# Altium footprint library PHY.PcbLib: 11 footprints
Each footprint in its own frame and in the unit in brackets; x right, y up, seen from the top. Pads: shape width x height; smd on the part's side, far side on the other; paste and mask are expansions set on the pad; w line width, h text height; cw(c..) or ccw(c..) is an arc to the next point about the centre after c.
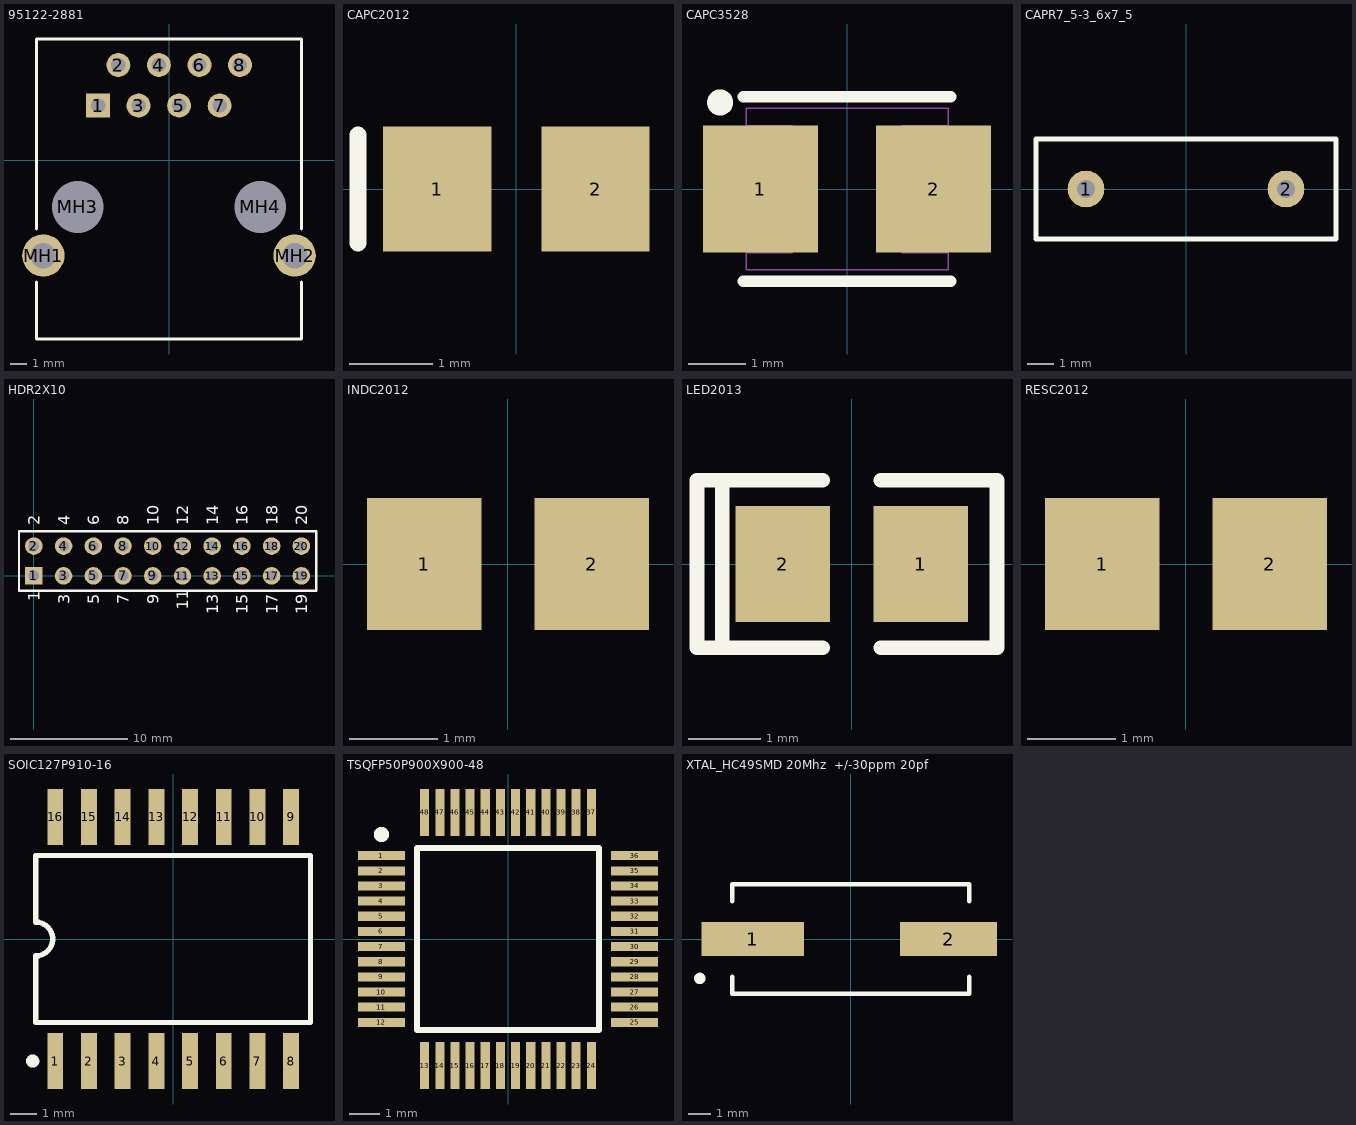
[diagram p0: the footprints below, top view; thin cyan lines are the x and y axes]

## 95122-2881 [mm]
pads (12):
  rect 1.5x1.5 hole 0.9: 1(-4.445,3.43)
  round 1.5 hole 0.9: 2(-3.175,5.97) 3(-1.905,3.43) 4(-0.635,5.97) 5(0.635,3.43) 6(1.905,5.97) 7(3.175,3.43) 8(4.445,5.97)
  round 2.65 hole 1.6: MH1(-7.875,-5.97) MH2(7.875,-5.97)
  round 2.95 hole 3.25 unplated: MH3(-5.715,-2.92) MH4(5.715,-2.92)
Top Overlay:
  lines w0.2: -8.3,-7.642 -8.3,-11.2 8.3,-11.2 8.3,-7.642 ; -8.3,-4.298 -8.3,7.6 8.3,7.6 8.3,-4.298

## CAPC2012 [mm]
pads (2):
  rect 1.3x1.5 smd: 1(-0.95,0) 2(0.95,0)
Top Overlay:
  lines w0.2: -1.9,-0.65 -1.9,0.65
Mechanical 6:
  text ".Comment" at -1.452,0.025 h0.2
Mechanical 11:
  text ".Designator" at -1.452,0.025 h0.2

## CAPC3528 [mm]
pads (2):
  rect 2x2.2 smd: 1(-1.5,0) 2(1.5,0)
Top Overlay:
  circle w0.25: c-2.2,1.5 r0.1
  lines w0.2: -1.8,-1.6 1.8,-1.6 ; -1.8,1.6 1.8,1.6
Mechanical 6:
  text ".Comment" at -2.227,0.025 h0.2
Mechanical 11:
  text ".Designator" at -2.227,0.025 h0.2
Mechanical 15:
  lines w0.025: -1.748,-1.104 -0.948,-1.104 -0.948,1.096 -1.748,1.096 ; 1.752,-1.104 0.952,-1.104 0.952,1.096 1.752,1.096 ; -1.748,-1.404 -1.748,1.396 1.752,1.396 1.752,-1.404 -1.748,-1.404

## CAPR7_5-3_6x7_5 [mm]
pads (2):
  round 1.4 hole 0.7: 1(-3.81,0) 2(3.81,0)
Top Overlay:
  lines w0.2: -5.715,-1.905 5.715,-1.905 5.715,1.905 -5.715,1.905 -5.715,-1.905

## HDR2X10 [mm]
pads (20):
  rect 1.5x1.5 hole 0.9: 1(0,0)
  round 1.5 hole 0.9: 2(0,2.54) 3(2.54,0) 4(2.54,2.54) 5(5.08,0) 6(5.08,2.54) 7(7.62,0) 8(7.62,2.54) 9(10.16,0) 10(10.16,2.54) 11(12.7,0) 12(12.7,2.54) 13(15.24,0) 14(15.24,2.54) 15(17.78,0) 16(17.78,2.54) 17(20.32,0) 18(20.32,2.54) 19(22.86,0) 20(22.86,2.54)
Top Overlay:
  lines w0.2: -1.27,-1.27 24.13,-1.27 24.13,3.81 -1.27,3.81 -1.27,-1.27
  text "2" at 0.508,4.318 h1
  text "1" at 0.508,-2.159 h1
  text "19" at 23.368,-3.302 h1
  text "20" at 23.368,4.318 h1
  text "16" at 18.288,4.318 h1
  text "12" at 13.208,4.318 h1
  text "6" at 5.588,4.318 h1
  text "15" at 18.288,-3.302 h1
  text "11" at 13.208,-2.921 h1
  text "5" at 5.588,-2.413 h1
  text "3" at 3.048,-2.413 h1
  text "4" at 3.048,4.318 h1
  text "7" at 8.128,-2.413 h1
  text "8" at 8.128,4.318 h1
  text "9" at 10.668,-2.413 h1
  text "10" at 10.668,4.318 h1
  text "13" at 15.748,-3.302 h1
  text "14" at 15.748,4.318 h1
  text "17" at 20.828,-3.302 h1
  text "18" at 20.828,4.318 h1

## INDC2012 [mm]
pads (2):
  rect 1.3x1.5 smd: 1(-0.95,0) 2(0.95,0)
Mechanical 6:
  text ".Comment" at -1.427,0.025 h0.2
Mechanical 11:
  text ".Designator" at -1.427,0.025 h0.2

## LED2013 [mm]
pads (2):
  rect 1.3x1.6 smd: 1(0.95,0) 2(-0.95,0)
Top Overlay:
  lines w0.2: -1.78,-1.15 -1.78,1.15 ; -0.4,-1.15 -2.13,-1.15 -2.13,1.15 -0.4,1.15 ; 0.4,-1.15 2,-1.15 2,1.15 0.4,1.15

## RESC2012 [mm]
pads (2):
  rect 1.3x1.5 smd: 1(-0.95,0) 2(0.95,0)
Mechanical 6:
  text ".Comment" at -1.427,0.025 h0.2
Mechanical 11:
  text ".Designator" at -1.427,0.025 h0.2

## SOIC127P910-16 [mm]
height 1.35
pads (16):
  rect 0.6x2.1 smd: 1(-4.445,-4.6) 2(-3.175,-4.6) 3(-1.905,-4.6) 4(-0.635,-4.6) 5(0.635,-4.6) 6(1.905,-4.6) 7(3.175,-4.6) 8(4.445,-4.6) 9(4.445,4.6) 10(3.175,4.6) 11(1.905,4.6) 12(0.635,4.6) 13(-0.635,4.6) 14(-1.905,4.6) 15(-3.175,4.6) 16(-4.445,4.6)
Top Overlay:
  circle w0.25: c-5.295,-4.6 r0.125
  lines w0.2: -5.175,-3.15 5.175,-3.15 5.175,3.15 -5.175,3.15 -5.175,0.635 cw(c-5.175,0) -5.175,-0.635 -5.175,-3.15

## TSQFP50P900X900-48 [mm]
height 1.35
pads (48):
  rect 1.55x0.3 smd: 1(-4.175,2.75) 2(-4.175,2.25) 3(-4.175,1.75) 4(-4.175,1.25) 5(-4.175,0.75) 6(-4.175,0.25) 7(-4.175,-0.25) 8(-4.175,-0.75) 9(-4.175,-1.25) 10(-4.175,-1.75) 11(-4.175,-2.25) 12(-4.175,-2.75) 25(4.175,-2.75) 26(4.175,-2.25) 27(4.175,-1.75) 28(4.175,-1.25) 29(4.175,-0.75) 30(4.175,-0.25) 31(4.175,0.25) 32(4.175,0.75) 33(4.175,1.25) 34(4.175,1.75) 35(4.175,2.25) 36(4.175,2.75)
  rect 0.3x1.55 smd: 13(-2.75,-4.175) 14(-2.25,-4.175) 15(-1.75,-4.175) 16(-1.25,-4.175) 17(-0.75,-4.175) 18(-0.25,-4.175) 19(0.25,-4.175) 20(0.75,-4.175) 21(1.25,-4.175) 22(1.75,-4.175) 23(2.25,-4.175) 24(2.75,-4.175) 37(2.75,4.175) 38(2.25,4.175) 39(1.75,4.175) 40(1.25,4.175) 41(0.75,4.175) 42(0.25,4.175) 43(-0.25,4.175) 44(-0.75,4.175) 45(-1.25,4.175) 46(-1.75,4.175) 47(-2.25,4.175) 48(-2.75,4.175)
Top Overlay:
  circle w0.25: c-4.175,3.45 r0.125
  lines w0.2: -3,-3 -3,3 3,3 3,-3 -3,-3

## XTAL_HC49SMD 20Mhz  +/-30ppm 20pf [mm]
pads (2):
  rect 4.5x1.5 smd: 1(-4.3,0)
  rect 4.25x1.5 smd: 2(4.3,0)
Top Overlay:
  circle w0.25: c-6.625,-1.73 r0.125
  lines w0.2: -5.2,-1.65 -5.2,-2.4 5.2,-2.4 5.2,-1.65 ; -5.2,1.65 -5.2,2.4 5.2,2.4 5.2,1.65